# EAGLE library part SPIN-FV1 (library ioshub)
Spin Semiconductor FV-1 Soic 28
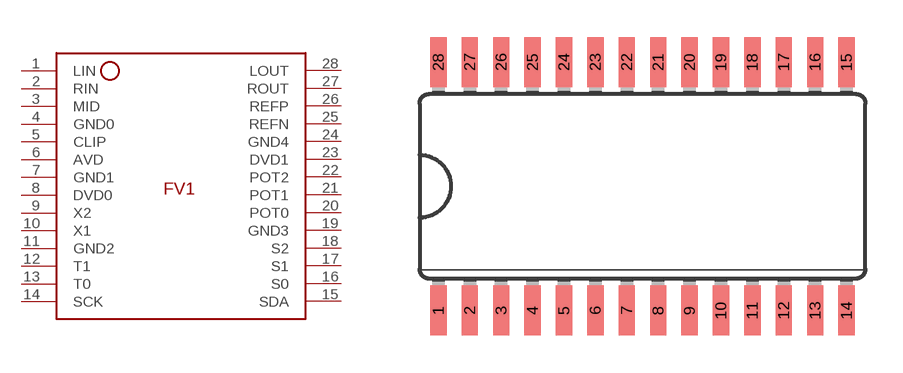
[diagram p10: symbol with the pads of SPIN-FV1; footprint SPIN-FV1]

Designator prefix -

## SPIN-FV1FV-1A  [SPIN-FV1]
1  LIN
2  RIN
3  MID
4  GND0
5  CLIP
6  AVD
7  GND1
8  DVD0
9  X2
10  X1
11  GND2
12  T1
13  T0
14  SCK
15  SDA
16  S0
17  S1
18  S2
19  GND3
20  POT0
21  POT1
22  POT2
23  DVD1
24  GND4
25  REFN
26  REFP
27  ROUT
28  LOUT

## Footprint SPIN-FV1 (pad centres in mm)
SPIN Semiconductor FV-1 SOIC 28
smd 0.66 x 2.032: 1 -8.255,-5.029; 2 -6.985,-5.029; 3 -5.715,-5.029; 4 -4.445,-5.029; 5 -3.175,-5.029; 6 -1.905,-5.029; 7 -0.635,-5.029; 8 0.635,-5.029; 9 1.905,-5.029; 10 3.175,-5.029; 11 4.445,-5.029; 12 5.715,-5.029; 13 6.985,-5.029; 14 8.255,-5.029; 15 8.255,5.029; 16 6.985,5.029; 17 5.715,5.029; 18 4.445,5.029; 19 3.175,5.029; 20 1.905,5.029; 21 0.635,5.029; 22 -0.635,5.029; 23 -1.905,5.029; 24 -3.175,5.029; 25 -4.445,5.029; 26 -5.715,5.029; 27 -6.985,5.029; 28 -8.255,5.029